# Altium schematic symbol library LV-BMS.SchLib: 19 symbols
Pins are listed as number, name and electrical type; pins without a type are passive.

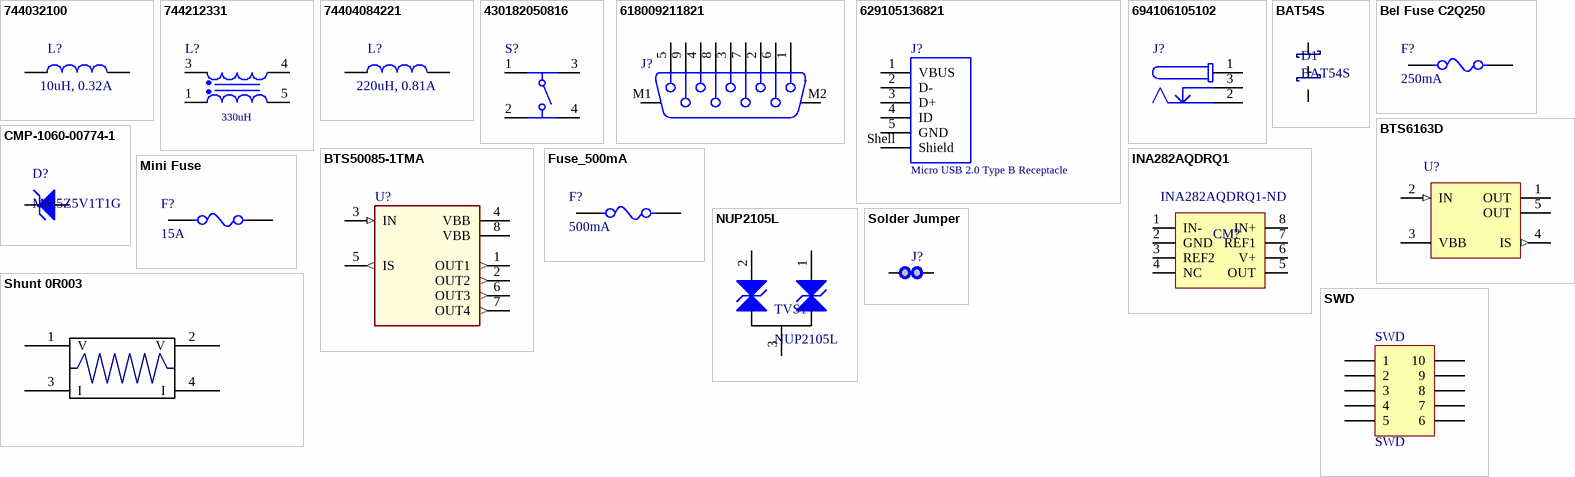
[diagram p0: symbols 744032100 to SWD]

## 744032100
designator L?, comment 10uH, 0.32A
WE-LQ SMT Inductor, size 1210, 10uH, 0.32A; Manufacturer Part Number: 744032100; Manufacturer: Wurth Elektronik; DC Resistance max.: 0.65Ohm; Self Resonant Frequency: 20MHz; Q-Factor: 35; Saturation Current: 0.85A; ComponentLink1Description: Manufacturer; ComponentLink1URL: http://www.we-online.de; ComponentLink2Description: Datasheet; ComponentLink2URL: https://www.we-online.com/catalog/datasheet/744032100.pdf; Operating Temperature: -40 to +125degC; Packaging: Tape and Reel; Published Date: April 2020; Rated Current: 0.32A; Size: 1210; Inductance: 10uH; Mounting Technology: SMT
footprint WE-LQ_1210
pins: 1, 2

## 744212331
designator L?, comment 330uH
WE-SL1 SMT Common Mode Line Filter, 330uH, 300mA, 80V; Manufacturer: Wurth Elektronik; Manufacturer Part Number: 744212331; Impedance max.: 2000Ohm; Insulation Test Voltage: 250VAC; Winding Style: sectional; ComponentLink1Description: Manufacturer; ComponentLink1URL: http://www.we-online.de; ComponentLink2Description: Datasheet; ComponentLink2URL: https://www.we-online.com/catalog/datasheet/744212331.pdf; Published Date: April 2020; Rated Current: 300mA; Rated Voltage: 80V; Inductance: 330uH; Operating Temperature: -40 to +105degC; Mounting Technology: SMT; Packaging: Tape and Reel
footprint WE-SL1 (SMD Inductor, 4-Leads, Body 6.5x3.6mm)
pins: 1, 3, 4, 5

## 74404084221
designator L?, comment 220uH, 0.81A
WE-LQS SMT Power Inductor, size 8040, 220uH, 0.81A; Manufacturer: Wurth Elektronik; Manufacturer Part Number: 74404084221; Saturation Current: 1.1A; Self Resonant Frequency: 4.5MHz; DC Resistance: 592mOhm; ComponentLink1Description: Manufacturer; ComponentLink1URL: http://www.we-online.de; ComponentLink2Description: Datasheet; ComponentLink2URL: https://www.we-online.com/catalog/datasheet/74404084221.pdf; Published Date: March 2020; Rated Current: 0.81A; Operating Temperature: -40 to +125degC; Mounting Technology: SMT; Packaging: Tape and Reel; Inductance: 220uH; Size: 8040
footprint WE-LQS_8040 (SMD Power Inductor, 2-Leads, body 8x8mm)
pins: 1, 2

## 430182050816
designator S?
WS-TASV SMT Tact Switch 6x6mm, height 5mm, 160gf; Part Number: 430182050816; Rated Voltage: 12VDC; Rated Current: 50mA; Washable: No; ComponentLink1Description: Manufacturer; ComponentLink1URL: http://www.we-online.de; ComponentLink2Description: Datasheet; ComponentLink2URL: https://katalog.we-online.com/em/datasheet/430182050816.pdf; Operating Temperature: -40 to +85degC; Published Date: September 2019; Contact Material: Stainless Steel; Height: 5mm; Mounting Technology: SMT; Contact Plating: Silver; Operation Force: 160gf; Packaging: Tape and Reel; Terminal Material: Copper Alloy; Publisher: Wurth Elektronik; Terminal Plating: Silver
footprint 430182050816 (SMD Tact Switch, body 6x6mm)
pins: 1, 2, 3, 4

## 618009211821
designator J?
Female PCB Connector without Hex Screw WR-DSUB, 8.08 mm, Angled, 9 pins; Part Number: 618009211821; Pin Number: 9; Rated Current: 3 A; Contact Resistance: 30 mOhm; Working Voltage: 125 VAC; ComponentLink1Description: Manufacturer; ComponentLink1URL: http://www.we-online.de; ComponentLink2Description: Datasheet; ComponentLink2URL: https://katalog.we-online.de/em/datasheet/6180xx211821.pdf; Published Date: September 2018; Publisher: Wurth Elektronik; Orientation: Angled; Operating Temperature: -40 to 85 degC; Mounting Technology: THT; Gender: Female; Packaging: Tray
footprint 618009211821 (09p 8.08mm bracket, board lock & UNC4-40 Rivet without hex screw)
pins: 1, 2, 3, 4, 5, 6, 7, 8, 9, M1, M2

## 629105136821
designator J?, comment Micro USB 2.0 Type B Receptacle
Micro USB 2.0 Type B, Receptacle, Horizontal, SMT; Manufacturer: Wurth Elektronik; Manufacturer Part Number: 629105136821; Rated Current: 1A; Pin Number: 5; Interface Type: Type B; Working Voltage: 30VAC; ComponentLink1Description: Manufacturer; ComponentLink1URL: http://www.we-online.de; ComponentLink2Description: Datasheet; ComponentLink2URL: https://katalog.we-online.com/em/datasheet/629105136821.pdf; Published Date: August 2020; Gender: Receptacle; Type: Horizontal; Packaging: Tape and Reel; Operating Temperature: -40 to +105degC; Mounting Technology: SMT; Application: Micro USB 2.0
footprint 629105136821 (Micro USB 2.0 SMT Type B Horizontal 5 Contacts)
pins: 1 VBUS, 2 D-, 3 D+, 4 ID, 5 GND, Shell Shield

## 694106105102
designator J?
DC Power Jack Connector with Pegs WR-DC, Male, Right Angled, SMT, 5 A, 24 V; Part Number: 694106105102; Opening Diameter: 6.4 mm; Plug Inner Diameter: 2.05 mm; Plug Outer Diameter: 5.5 mm; Rated Current: 5 A; Working Voltage: 24 V; ComponentLink1Description: Manufacturer; ComponentLink1URL: http://www.we-online.de; ComponentLink2Description: Datasheet; ComponentLink2URL: http://katalog.we-online.de/em/datasheet/6941xx105102.pdf; Published Date: August 2018; Publisher: Wurth Elektronik; Orientation: Right Angled; Operating Temperature: -40 to 85 degC; Mounting Technology: SMT; Gender: Male; Packaging: Tape and Reel
footprint 694106105102 (DC Power Jack Right Angled SMT ?6.4 with pegs)
pins: 1, 2, 3

## BAT54S
designator D1
Farnell: 1612328
footprint _SOT23-3N
pins: 1, 2, 3

## Bel Fuse C2Q250
designator F?, comment 250mA
Fuse, Fast Blow 250mA, 63VDC; Manufacturer: Bel Fuse; Voltage Rating AC: 32V; Voltage Rating DC: 63; OC_Mouser: 530-C2Q250; Value: 250mA; PackageReference: 0603; Characteristic: Fast Blow
footprint RESC0603(1608)_N (Chip Resistor, Body 1.6x0.8mm, IPC Medium Density)
pins: 1, 2

## BTS6163D
designator U?
PROFET Smart Highside Power Switch, 1 Channel, 6.5 A Load Current, -40 to 150 degC, PG-TO252-5-11, Reel, Green; Manufacturer: Infineon; PartNumber: BTS6163D; Channels: 1; Green: TRUE; Group: Automotive Qualified; Load Current (typ): 6.5 A; Ptot (max): 59 W; Recommended Operating Voltage Max.: 62 V; Recommended Operating Voltage Min.: 5.5 V; RON @ 25degreesC: 20 mOhm; RON(max) @ 150degreesC: 40 mOhm; toff (max): 500 us; ton (max): 300 us; DatasheetVersion: Rev. 1.0; PackageVersion: Nov-10; PackageReference: PG-TO252-5-11; PackageDescription: 5-Pin Plastic (Green) Transistor Single Outline Package, 6.5 x 6.12 mm Body, 1.14 mm Pitch; Supplier 1: Digi-Key; Supplier Part Number 1: BTS6163DINTR-ND; Supplier 2: Digi-Key; Supplier Part Number 2: BTS6163DINCT-ND; Supplier 3: Digi-Key; Supplier Part Number 3: BTS6163DINDKR-ND; Supplier 4: Mouser; Supplier Part Number 4: 726-BTS6163D; Halogen-free: TRUE; Packing: Reel; Mounting Technology: Surface Mount; ComponentLink1Description: Manufacturer URL; ComponentLink1URL: http://www.infineon.com/; ComponentLink2Description: Datasheet; ComponentLink2URL: http://www.infineon.com/dgdl/BTS6163D_DS_v10.pdf?folderId=db3a304314dca389011537739e37155f&fileId=db3a3043183a95550118606cdf2336a2&location=en.Products.Automotive_ICs.Smart_High-_and_Low-Side_Switches.PROFET__-_Smart_High_Side_Switches.DATASHEET.BTS6163D_DS_v10.pdf; ComponentLink3Description: Package Specification; ComponentLink3URL: http://www.infineon.com/dgdl/TLE7276-Data+Sheet-+v1_11.pdf?folderId=db3a304412b407950112b408e8c90004&fileId=db3a304412b407950112b436c53f66c8&sId=db3a30433db6f09f013dc0e43c0428c1
footprint INF-PG-TO252-5-11_L (DPAK, 5-Leads, Body 6.5x6.12mm, Pitch 1.14mm, IPC High Density)
footprint INF-PG-TO252-5-11_M (DPAK, 5-Leads, Body 6.5x6.12mm, Pitch 1.14mm, IPC Low Density)
footprint INF-PG-TO252-5-11_N (DPAK, 5-Leads, Body 6.5x6.12mm, Pitch 1.14mm, IPC Medium Density)
pins: 1 OUT (hiz) "Output; output to the load; pin 1 and 5 must be externally shorted.", 2 IN (in) "Input; activates the power switch if shorted to ground.", 3 VBB (power) "Supply Voltage; positive power supply voltage; tab and pin 3 are internally shorted.", 4 IS (out) "Sense Output; Diagnostic feedback; provides at normal operation a sense current proportional to the load current; in case of overload, overtemperature and/or short circuit a defined current is provided.", 5 OUT (hiz) "Output; output to the load; pin 1 and 5 must be externally shorted."

## BTS50085-1TMA
designator U?  (value not drawn)
Smart Highside High Current Power Switch, VBB 70V; Manufacturer: Infineon Technologies; ManufacturerPartNumber: BTS50085-1TMA; PackageReference: PG-TO220-7-4
footprint TO127P1385X450-8N-V (TO,1.27mm pitch;7 pin,13.85mm L X 9.25mm W X 4.50mm H body)
pins: 1 OUT1 (out) "Output", 2 OUT2 (out) "Output", 3 IN (in) "Input", 4 VBB (power) "Supply Voltage", 5 IS (out) "Sense Output", 6 OUT3 (out) "Output", 7 OUT4 (out) "Output", 8 VBB (power) "Supply Voltage"

## CMP-1060-00774-1
designator D?, comment MM5Z5V1T1G
Zener Voltage Regulator, 500 mW, 2-Pin SOD-523, Pb-Free, Tape and Reel; Manufacturer: On Semiconductor; VZ Typ (V): 5.1; P Max (W): 0.5; Packing: Tape and Reel; ComponentLink2URL: http://www.onsemi.cn/pub_link/Collateral/MM5Z2V4T1-D.PDF; ComponentLink1URL: http://www.onsemi.com/; ComponentLink3Description: Package Specification; Mounting Technology: Surface Mount; ComponentLink1Description: Manufacturer URL; DatasheetVersion: Rev. 10; ComponentLink3URL: http://www.onsemi.com/pub_link/Collateral/502-01.PDF; PackageReference: SOD-523-2-502-01; RoHS: Pb-Free; ComponentLink2Description: Datasheet; PackageDescription: 2-Pin SOD, Body 1.2 x 0.8 mm; PartNumber: MM5Z5V1T1G; PackageVersion: Rev. E, 09/2010
footprint ONSC-SOD-523-2-502-01_V (SOD, 2-Leads, Body 1.2x0.8mm)
pins: 1 K, 2 A

## Fuse_500mA
designator F?, comment 500mA
0679H0500-01, Sicherungen zur Aufbaumontage 500mA 350 VAC 72 VCD; Voltage_Rating: 72 VDC; Value: 500mA; OC_Mouser: 530-0679H0500-01
footprint Fuse_500_mA
pins: 1, 2

## INA282AQDRQ1
designator CM?  Supplier Part Number 1: INA282AQDRQ1-ND
SP Amp Current Shunt Monitor Single 18V Automotive 8-Pin SOIC T/R; Manufacturer: Texas Instruments; Manufacturer Part Number: INA282AQDRQ1; Common Mode Rejection Ratio: 120dB; Min Supply Voltage: 2.7V; Input Offset Voltage (Vos): 70uV; Nominal Supply Current: 900uA; Number of Channels: 1; Gain Bandwidth Product: 10kHz; Accuracy: 0.4%; Voltage Gain: 33.98dB; Power Supply Rejection Ratio (PSRR): 110.46dB; Input Resistance: 6kR; Supplier 1: Digi-Key; Stock 1: 0; Mount: Surface Mount; Case/Package: SOIC; Number of Pins: 8; Min Operating Temperature: -40°C; Max Operating Temperature: 125°C; Max Supply Voltage: 18V; Packaging: Tape and Reel; Package Quantity: 2500; Number of Elements: 1; Lead Free: Lead Free; ComponentLink1URL: http://www.ti.com/lit/gpn/ina282-q1; ComponentLink1Description: http://www.ti.com/lit/gpn/ina282-q1; ComponentLink2URL: http://www.ti.com/general/docs/lit/getliterature.tsp?genericPartNumber=INA284-Q1&&fileType=pdf; ComponentLink2Description: http://www.ti.com/general/docs/lit/getliterature.tsp?genericPartNumber=INA284-Q1&&fileType=pdf; ComponentLink3URL: http://www.ti.com/lit/ds/symlink/ina282-q1.pdf; ComponentLink3Description: http://www.ti.com/lit/ds/symlink/ina282-q1.pdf
footprint SO8_N (SOIC, 8-Leads, Body 4.9x3.9mm, Pitch 1.27mm, IPC Medium Density)
footprint SO8_M (SOIC, 8-Leads, Body 4.9x3.9mm, Pitch 1.27mm, IPC Low Density)
footprint SO8_L (SOIC, 8-Leads, Body 4.9x3.9mm, Pitch 1.27mm, IPC High Density)
pins: 1 IN-, 2 GND, 3 REF2, 4 NC, 5 OUT, 6 V+, 7 REF1, 8 IN+

## Mini Fuse
designator F?, comment 15A
Mini Fuse 2-25A, 58V; Value: 15A; OC_MOUSER: 576-0997015.WXN; Voltage Rating: 58V
footprint mini fuse
pins: 1, 2

## NUP2105L
designator TVS1
Dual Bidirectional Voltage Suppressor 350W Peak
footprint _SOT23-3N
pins: 1 A1, 2 A2, 3 A3

## Shunt 0R003
designator R?, comment Shunt Resistor
Manufacturer: OHMITE; Value: 0R003; LatestRevisionDate: 17-Jul-2002; LatestRevisionNote: Re-released for DXP Platform.; Publisher: Altium Limited; OC_Farnell: 2363982
signal-integrity model Resistor
footprint SHUNT FC4L110; pin to pad 1>3 2>4 3>1 4>2
pins: 1 V, 2 V, 3 I, 4 I

## Solder Jumper
designator J?, comment Jumper  (value not drawn)
footprint Solder Jumper
pins: 1, 2

## SWD
designator SWD
WR-PHD 1.27 mm SMT Dual Pin Header, H=3.80 mm, 10 Pins; Order Code Würth: 62101021021; LatestRevisionDate: 17-Jul-2002; LatestRevisionNote: Re-released for DXP Platform.; Publisher: Altium Limited
signal-integrity model Connector
footprint SWD_Connector (M50-3600542)
pins: 1, 2, 3, 4, 5, 6, 7, 8, 9, 10